# Altium footprint library PCB - CAPACITOR - ALUMINIUM - CAP ALSMD POLY 8.3MM H10.0MM.PCBLIB: 1 footprints
Each footprint in its own frame and in the unit in brackets; x right, y up, seen from the top. Pads: shape width x height; smd on the part's side, far side on the other; paste and mask are expansions set on the pad; w line width, h text height; cw(c..) or ccw(c..) is an arc to the next point about the centre after c.
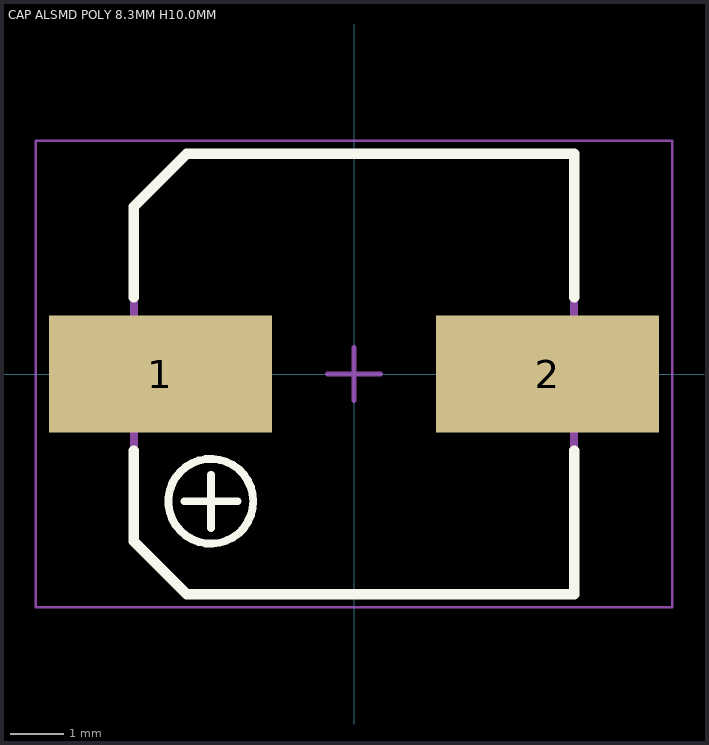
[diagram p0: the footprint, top view; thin cyan lines are the x and y axes]

## CAP ALSMD POLY 8.3MM H10.0MM [mm] "Aluminum Electrolytic Capacitor, Body 8.30x8.30x10.0mm"
height 10
pads (2):
  rect 4.2x2.2 smd: 1(-3.65,0) 2(3.65,0)
Top Overlay:
  circle w0.15: c-2.7,-2.4 r0.8
  lines w0.15: -3.2,-2.4 -2.2,-2.4 ; -2.7,-2.9 -2.7,-1.9
  lines w0.2: -4.15,-1.45 -4.15,-3.151 -3.151,-4.15 4.15,-4.15 4.15,-1.45 ; -4.15,1.45 -4.15,3.151 -3.151,4.15 4.15,4.15 4.15,1.45
Top Assembly:
  circle w0.15: c-2.7,0 r0.8
  lines w0.15: -3.2,0 -2.2,0 ; -2.7,-0.5 -2.7,0.5 ; -4.15,-3.15 -3.15,-4.15 4.15,-4.15 4.15,4.15 -3.15,4.15 -4.15,3.15 -4.15,-3.15
  text ".Designator" at -3.525,1.756 h1.52
Top Component Center:
  lines w0.1: -0.5,0 0.5,0 ; 0,-0.5 0,0.5
Top Courtyard:
  lines w0.05: -6,-4.4 -6,4.4 6,4.4 6,-4.4 -6,-4.4
3D body "CAP ALSMD - POLY - 8.3 x 8.3 x 10.0.step": height 10, standoff 0, extent -4.5,-4.15 4.5,4.15